# Altium schematic symbol library Ad - ESP-12F.SchLib: 2 symbols
Pins are listed as number, name and electrical type; pins without a type are passive.

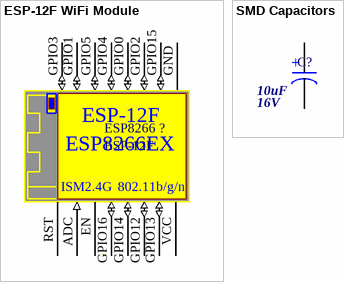
[diagram p0: symbols ESP-12F WiFi Module to SMD Capacitors]

## ESP-12F WiFi Module
designator ESP8266 ?, comment ESP-12F
ESP-12F WiFi Module
footprint ESP-12F (ESP8266 - ESP-12F WiFi Module)
pins: ADC A/D Conversion result.Input voltage range 0-1v,scope:0-1024 (in) "ADC", EN Chip enable pin. Active high (power) "EN", GND (power), GPIO0 SPI_CS2 (io) "GPIO0", GPIO1 UART TX during ﬂash programming; SPI_CS1 (io) "GPIO1", GPIO2 UART TX during ﬂash programming (io) "GPIO2", GPIO3 UART Rx during ﬂash programming (io) "GPIO3", GPIO4 (io), GPIO5 (io) "GPIO4", GPIO12 HSPI_MISO (io) "GPIO12", GPIO13 HSPI_MOSI; UART0_CTS (io) "GPIO13", GPIO14 HSPI_CLK (io) "GPIO14", GPIO15 HSPI_CS; UART0_RTS (io) "GPIO15", GPIO16 XPD_DCDC - Deep-sleep wakeup (need to be connected to EXT_RSTB) (io) "GPIO16", RST External reset signal (Low voltage level: active) (power) "RST", VCC Analog Power 2.5V ~ 3.6V (power) "VCC"
text: ESP8266EX; ISM2.4G; 802.11b/g/n

## SMD Capacitors
designator C?  value 10uF  Voltage: 16V
SMD Capacitors
footprint AECS (Aluminum Electrolytic Capacitor, Body 4.30x4.30x5.90mm, IPC High Density)
pins: 1 "PIN 1 +", 2 "PIN 2 -"
text: +